# EAGLE library part KSZ8873 (library microchip)
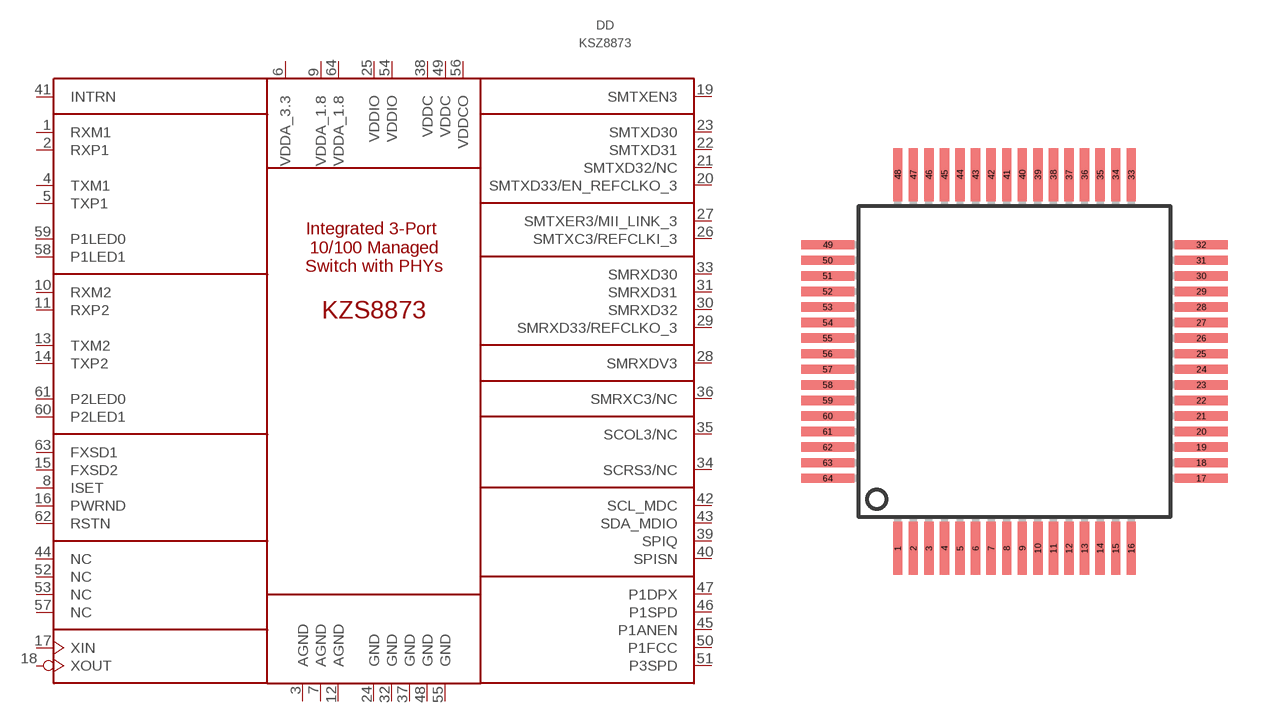
[diagram p3: symbol with the pads of LQFP64; footprint LQFP64]

Designator prefix DD

## KSZ8873MLL  [LQFP64]
1  RXM1
2  RXP1
3  AGND  pwr
4  TXM1
5  TXP1
6  VDDA_3.3  pwr
7  AGND  pwr
8  ISET  pas
9  VDDA_1.8  pwr
10  RXM2
11  RXP2
12  AGND  pwr
13  TXM2
14  TXP2
15  FXSD2  in
16  PWRND  in
17  XIN  in
18  XOUT  out
19  SMTXEN3  in
20  SMTXD33/EN_REFCLKO_3  in
21  SMTXD32/NC  in
22  SMTXD31  in
23  SMTXD30  in
24  GND  pwr
25  VDDIO  pwr
26  SMTXC3/REFCLKI_3
27  SMTXER3/MII_LINK_3  in
28  SMRXDV3
29  SMRXD33/REFCLKO_3
30  SMRXD32
31  SMRXD31
32  GND  pwr
33  SMRXD30
34  SCRS3/NC
35  SCOL3/NC
36  SMRXC3/NC
37  GND  pwr
38  VDDC  pwr
39  SPIQ
40  SPISN  in
41  INTRN  out
42  SCL_MDC
43  SDA_MDIO
44  NC  nc
45  P1ANEN
46  P1SPD
47  P1DPX
48  GND  pwr
49  VDDC  pwr
50  P1FCC
51  P3SPD
52  NC  nc
53  NC  nc
54  VDDIO  pwr
55  GND  pwr
56  VDDCO  pwr
57  NC  nc
58  P1LED1
59  P1LED0
60  P2LED1
61  P2LED0
62  RSTN  in
63  FXSD1  in
64  VDDA_1.8  pwr

## KSZ8873FLL  [LQFP64]
Pads as for LQFP64

## KSZ8873RLL  [LQFP64]
Pads as for LQFP64

## Footprint LQFP64 (pad centres in mm)
LQFP64 10 x 10 mm, 64-pin low-profile quad flat package
smd 0.3 x 1.7: 1 -3.75,-6; 2 -3.25,-6; 3 -2.75,-6; 4 -2.25,-6; 5 -1.75,-6; 6 -1.25,-6; 7 -0.75,-6; 8 -0.25,-6; 9 0.25,-6; 10 0.75,-6; 11 1.25,-6; 12 1.75,-6; 13 2.25,-6; 14 2.75,-6; 15 3.25,-6; 16 3.75,-6; 33 3.75,6; 34 3.25,6; 35 2.75,6; 36 2.25,6; 37 1.75,6; 38 1.25,6; 39 0.75,6; 40 0.25,6; 41 -0.25,6; 42 -0.75,6; 43 -1.25,6; 44 -1.75,6; 45 -2.25,6; 46 -2.75,6; 47 -3.25,6; 48 -3.75,6
smd 1.7 x 0.3: 17 6,-3.75; 18 6,-3.25; 19 6,-2.75; 20 6,-2.25; 21 6,-1.75; 22 6,-1.25; 23 6,-0.75; 24 6,-0.25; 25 6,0.25; 26 6,0.75; 27 6,1.25; 28 6,1.75; 29 6,2.25; 30 6,2.75; 31 6,3.25; 32 6,3.75; 49 -6,3.75; 50 -6,3.25; 51 -6,2.75; 52 -6,2.25; 53 -6,1.75; 54 -6,1.25; 55 -6,0.75; 56 -6,0.25; 57 -6,-0.25; 58 -6,-0.75; 59 -6,-1.25; 60 -6,-1.75; 61 -6,-2.25; 62 -6,-2.75; 63 -6,-3.25; 64 -6,-3.75